# EAGLE library part RPI_PICO (library ct-bot)
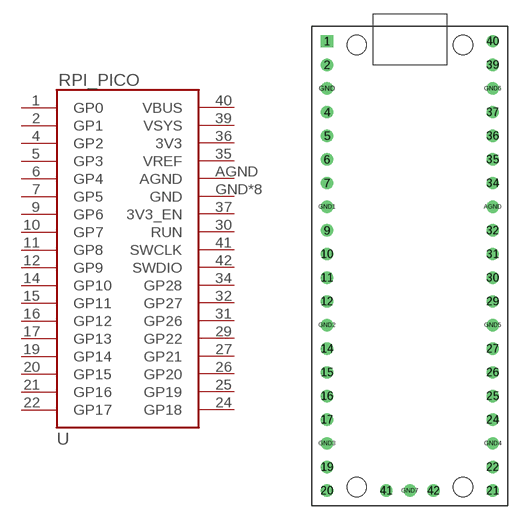
[diagram p29: symbol with the pads of RPI_PICO; footprint RPI_PICO]

Designator prefix -

## RPI_PICO  [RPI_PICO]
1  GP0
2  GP1
4  GP2
5  GP3
6  GP4
7  GP5
9  GP6
10  GP7
11  GP8
12  GP9
14  GP10
15  GP11
16  GP12
17  GP13
19  GP14
20  GP15
21  GP16
22  GP17
24  GP18
25  GP19
26  GP20
27  GP21
29  GP22
30  RUN  in
31  GP26
32  GP27
34  GP28
35  VREF  in
36  3V3  pwr
37  3V3_EN  in
39  VSYS  pwr
40  VBUS  pwr
41  SWCLK  in
42  SWDIO
AGND  AGND  pwr
GND  GND  pwr
GND1  GND  pwr
GND2  GND  pwr
GND3  GND  pwr
GND4  GND  pwr
GND5  GND  pwr
GND6  GND  pwr
GND7  GND  pwr

## Footprint RPI_PICO (pad centres in mm)
Dual In Line Package
drill 0.813 square: 1 -7.62,24.13
drill 0.813: 2 -7.62,21.59; 4 -7.62,16.51; 5 -7.62,13.97; 6 -7.62,11.43; 7 -7.62,8.89; 9 -7.62,3.81; 10 -7.62,1.27; 11 -7.62,-1.27; 12 -7.62,-3.81; 14 -7.62,-8.89; 15 -7.62,-11.43; 16 -7.62,-13.97; 17 -7.62,-16.51; 19 -7.62,-21.59; 20 -7.62,-24.13; 21 10.16,-24.13; 22 10.16,-21.59; 24 10.16,-16.51; 25 10.16,-13.97; 26 10.16,-11.43; 27 10.16,-8.89; 29 10.16,-3.81; 30 10.16,-1.27; 31 10.16,1.27; 32 10.16,3.81; 34 10.16,8.89; 35 10.16,11.43; 36 10.16,13.97; 37 10.16,16.51; 39 10.16,21.59; 40 10.16,24.13; 41 -1.27,-24.13; 42 3.81,-24.13; AGND 10.16,6.35; GND -7.62,19.05; GND1 -7.62,6.35; GND2 -7.62,-6.35; GND3 -7.62,-19.05; GND4 10.16,-19.05; GND5 10.16,-6.35; GND6 10.16,19.05; GND7 1.27,-24.13